# EAGLE library part REF3440IDBVR (library SamacSys_Parts)
4.1V Low-Drift Low-Power Small-Footprint Series Voltage Reference Source: Datasheet <http://www.ti.com/lit/gpn/ref3440>
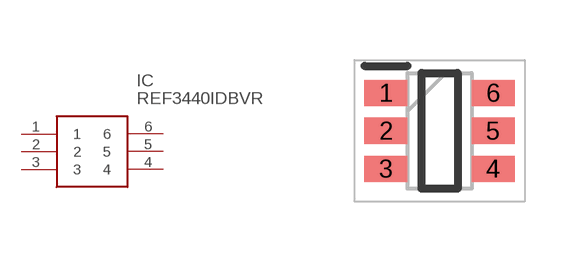
[diagram p5: symbol with the pads of SOP95P280X145-6N; footprint SOP95P280X145-6N]

Designator prefix IC

## REF3440IDBVR (DESCRIPTION: 4.1V Low-Drift Low-Power Small-Footprint Series Voltage Reference; HEIGHT: 1.45mm; MANUFACTURER_NAME: Texas Instruments; MANUFACTURER_PART_NUMBER: REF3440IDBVR)  [SOP95P280X145-6N]
1  1
2  2
3  3
4  4
5  5
6  6

## Footprint SOP95P280X145-6N (pad centres in mm)
DBV (R-PDSO-G6)-1
smd 1.075 x 0.65: 1 -1.338,0.95; 2 -1.338,0; 3 -1.338,-0.95; 4 1.338,-0.95; 5 1.338,0; 6 1.338,0.95